# Altium footprint library ctdsp.PcbLib: 16 footprints
Each footprint in its own frame and in the unit in brackets; x right, y up, seen from the top. Pads: shape width x height; smd on the part's side, far side on the other; paste and mask are expansions set on the pad; w line width, h text height; cw(c..) or ccw(c..) is an arc to the next point about the centre after c.
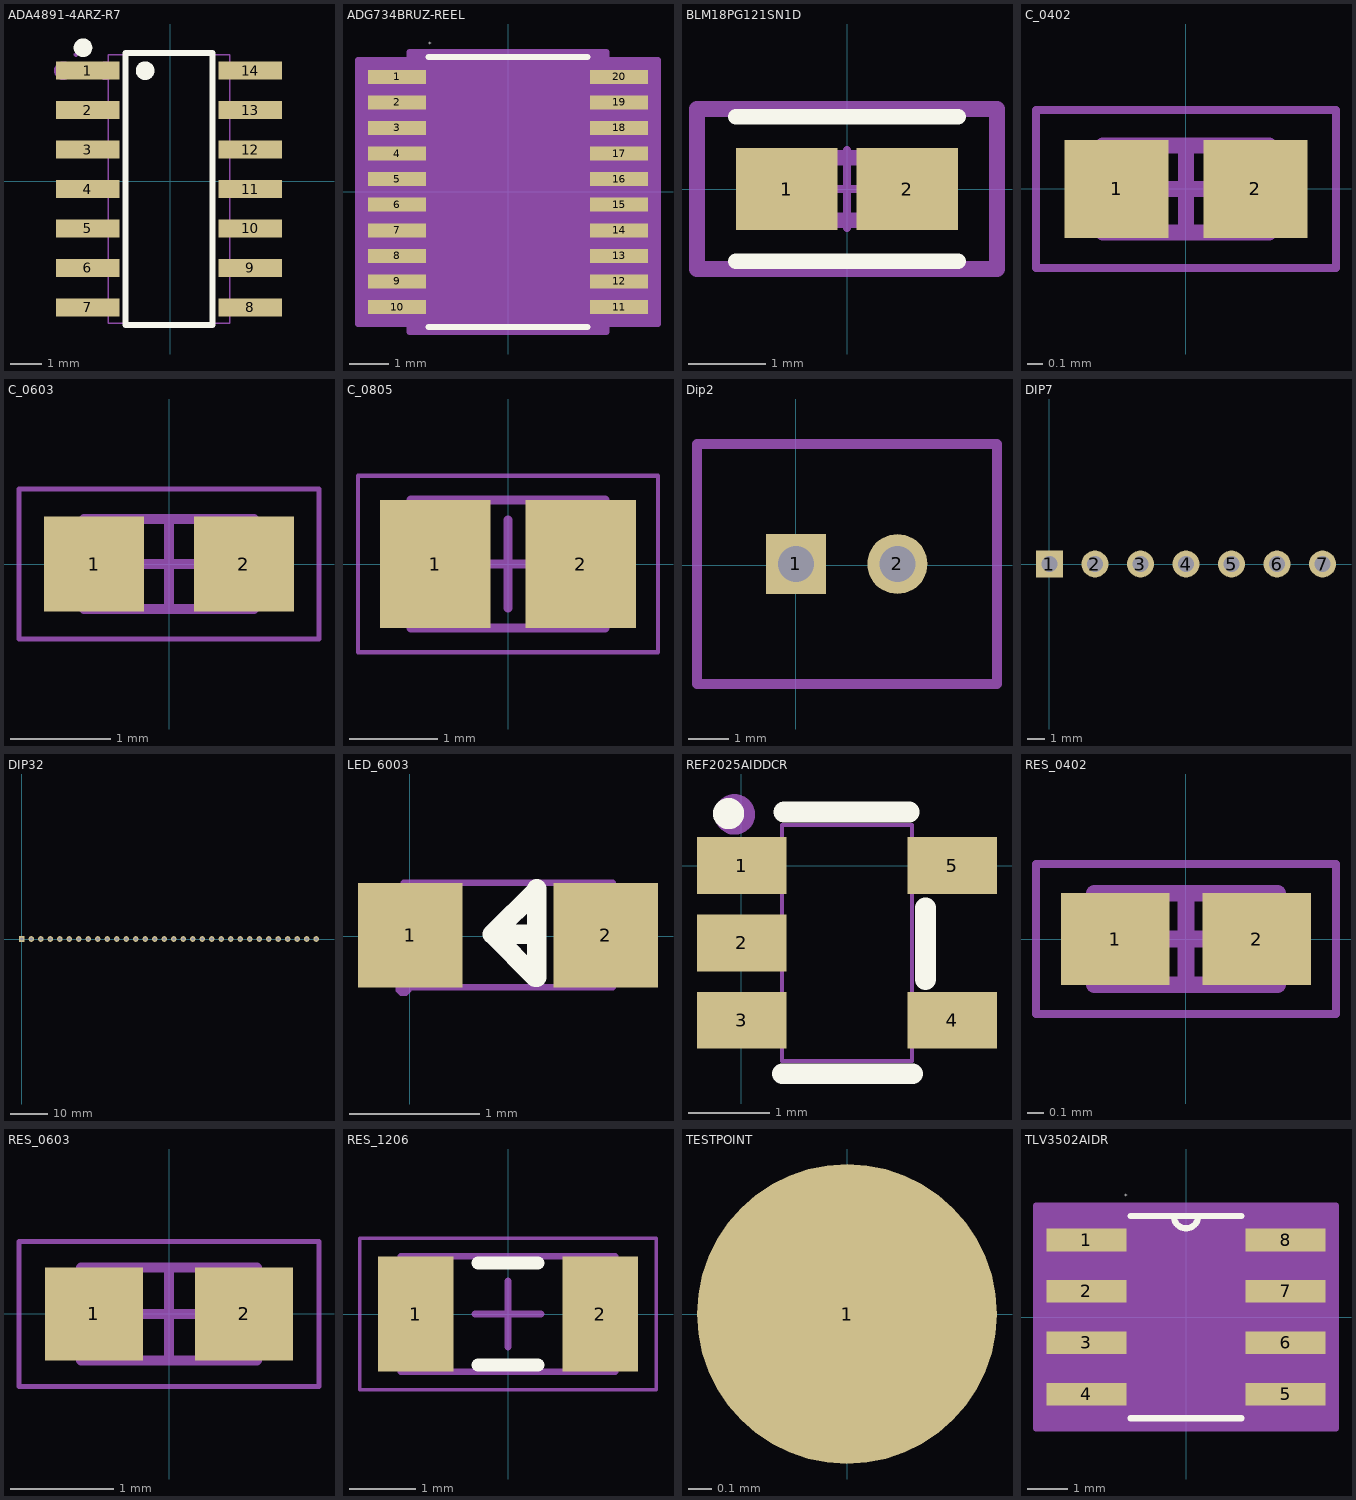
[diagram p0: the footprints below, top view; thin cyan lines are the x and y axes]

## ADA4891-4ARZ-R7 [mm]
pads (14):
  rect 2.038x0.574 smd: 1(-2.664,3.555) 2(-2.664,2.285) 3(-2.664,1.015) 4(-2.664,-0.255) 5(-2.664,-1.525) 6(-2.664,-2.795) 7(-2.664,-4.065) 8(2.574,-4.065) 9(2.574,-2.795) 10(2.574,-1.525) 11(2.574,-0.255) 12(2.574,1.015) 13(2.574,2.285) 14(2.574,3.555)
Top Overlay:
  circle w0.3: c-0.814,3.555 r0.15
  circle w0.3: c-2.814,4.295 r0.15
  circle w0.3: c-2.814,4.295 r0.15
  circle w0.3: c-0.814,3.555 r0.15
  lines w0.2: -1.442,-4.636 1.352,-4.636 1.352,4.127 -1.442,4.127 -1.442,-4.636
Mechanical 6:
  circle w0.3: c-3.445,3.555 r0.15
  circle w0.3: c-2.082,3.555 r0.15
Mechanical 15:
  drawing of 66 lines, arcs and shapes, not listed
3D body "ADA4891-4ARZ-R7.step": height 1.75, standoff 0, extent -3.048,-4.572 2.952,4.078

## ADG734BRUZ-REEL [mil]
pads (20):
  rect 58x14 smd: 1(-111,115.16) 2(-111,89.57) 3(-111,63.98) 4(-111,38.39) 5(-111,12.8) 6(-111,-12.8) 7(-111,-38.39) 8(-111,-63.98) 9(-111,-89.57) 10(-111,-115.16) 11(111,-115.16) 12(111,-89.57) 13(111,-63.98) 14(111,-38.39) 15(111,-12.8) 16(111,12.8) 17(111,38.39) 18(111,63.98) 19(111,89.57) 20(111,115.16)
Top Overlay:
  lines w6: -79.42,-135 79.42,-135 ; -79.42,135 79.42,135
  text "*" at -80,145 h5
Mechanical 13:
  lines w0: -12,130 ccw(c0,130) 12,130
  lines w1: -126,-121.16 -126,-109.16 -88.5,-109.16 -88.5,-121.16 -126,-121.16 ; -126,-95.57 -126,-83.57 -88.5,-83.57 -88.5,-95.57 -126,-95.57 ; -126,-69.98 -126,-57.98 -88.5,-57.98 -88.5,-69.98 -126,-69.98 ; -126,-44.39 -126,-32.39 -88.5,-32.39 -88.5,-44.39 -126,-44.39 ; -126,-18.8 -126,-6.8 -88.5,-6.8 -88.5,-18.8 -126,-18.8 ; -126,6.8 -126,18.8 -88.5,18.8 -88.5,6.8 -126,6.8 ; -126,32.39 -126,44.39 -88.5,44.39 -88.5,32.39 -126,32.39 ; -126,57.98 -126,69.98 -88.5,69.98 -88.5,57.98 -126,57.98 ; -126,83.57 -126,95.57 -88.5,95.57 -88.5,83.57 -126,83.57 ; -126,109.16 -126,121.16 -88.5,121.16 -88.5,109.16 -126,109.16 ; -88.5,-130 88.5,-130 88.5,130 -88.5,130 -88.5,-130 ; 88.5,-121.16 88.5,-109.16 126,-109.16 126,-121.16 88.5,-121.16 ; 88.5,-95.57 88.5,-83.57 126,-83.57 126,-95.57 88.5,-95.57 ; 88.5,-69.98 88.5,-57.98 126,-57.98 126,-69.98 88.5,-69.98 ; 88.5,-44.39 88.5,-32.39 126,-32.39 126,-44.39 88.5,-44.39 ; 88.5,-18.8 88.5,-6.8 126,-6.8 126,-18.8 88.5,-18.8 ; 88.5,6.8 88.5,18.8 126,18.8 126,6.8 88.5,6.8 ; 88.5,32.39 88.5,44.39 126,44.39 126,32.39 88.5,32.39 ; 88.5,57.98 88.5,69.98 126,69.98 126,57.98 88.5,57.98 ; 88.5,83.57 88.5,95.57 126,95.57 126,83.57 88.5,83.57 ; 88.5,109.16 88.5,121.16 126,121.16 126,109.16 88.5,109.16
  text "*" at -86,77 h50
Mechanical 15:
  region: -98.5,-132.16 -150,-132.16 -150,132.16 -98.5,132.16 -98.5,140 98.5,140 98.5,132.16 150,132.16 150,-132.16 98.5,-132.16 98.5,-140 -98.5,-140
  lines w6: -150,-132.16 -150,132.16 -98.5,132.16 -98.5,140 98.5,140 98.5,132.16 150,132.16 150,-132.16 98.5,-132.16 98.5,-140 -98.5,-140 -98.5,-132.16 -150,-132.16
3D body "RU_20_ADI.step": height 47.09, standoff 0, extent -125.98,-130 125.98,130

## BLM18PG121SN1D [mm]
pads (2):
  rect 1.306x1.058 smd paste+0 mask+0: 1(-0.776,0) 2(0.776,0)
Top Overlay:
  lines w0.2: -1.429,-0.929 1.429,-0.929 ; -1.429,0.929 1.429,0.929
Top 3D Body:
  lines w0.2: -0.8,-0.4 0.8,-0.4 0.8,0.4 -0.8,0.4 -0.8,-0.4
Board:
  lines w0.2: -1.929,-1.029 1.929,-1.029 1.929,1.029 -1.929,1.029 -1.929,-1.029
Top Assembly:
  lines w0.2: -1.929,-1.029 1.929,-1.029 1.929,1.029 -1.929,1.029 -1.929,-1.029
  text ".Designator" at 0,0.188 h1
Top Component Center:
  lines w0.1: -0.5,0 0.5,0 ; 0,-0.5 0,0.5
3D body "FBead_Murata_BLM18EG221SN1D_eec.STEP": height 0.25, standoff 0, extent -1.929,-1.029 1.929,1.029

## C_0402 [mm]
height 0.55
pads (2):
  rect 0.66x0.62 smd paste+0 mask+0.051: 1(-0.44,0) 2(0.44,0)
Mechanical 13:
  lines w0.1: -0.525,-0.275 0.525,-0.275 0.525,0.275 -0.525,0.275 -0.525,-0.275
Mechanical 15:
  lines w0.05: -0.95,-0.5 0.95,-0.5 0.95,0.5 -0.95,0.5 -0.95,-0.5
  lines w0.1: -0.275,0 0.275,0 ; 0,-0.275 0,0.275
3D body "C_0402.step": height 0.55, standoff 0, extent -0.525,-0.275 0.525,0.275

## C_0603 [mm]
height 0.9
pads (2):
  rect 1x0.95 smd: 1(-0.75,0) 2(0.75,0)
Top Courtyard:
  lines w0.05: -1.5,-0.75 -1.5,0.75 1.5,0.75 1.5,-0.75 -1.5,-0.75
  lines w0.1: -0.45,0 0.45,0 ; 0,-0.45 0,0.45
Top Assembly:
  lines w0.1: -0.85,-0.45 -0.85,0.45 0.85,0.45 0.85,-0.45 -0.85,-0.45
3D body "C_0603.step": height 0.9, standoff 0, extent -0.85,-0.45 0.85,0.45

## C_0805 [mm]
height 1.45
pads (2):
  rect 1.25x1.45 smd: 1(-0.825,0) 2(0.825,0)
Top Courtyard:
  lines w0.05: -1.7,-1 1.7,-1 1.7,1 -1.7,1 -1.7,-1
  lines w0.1: -0.5,0 0.5,0 ; 0,-0.5 0,0.5
Top Assembly:
  lines w0.1: -1.1,-0.725 1.1,-0.725 1.1,0.725 -1.1,0.725 -1.1,-0.725
3D body "C_0805.step": height 1.45, standoff 0, extent -1.1,-0.725 1.1,0.725

## Dip2 [mm]
pads (2):
  rect 1.5x1.5 hole 0.9: 1(0,0.025)
  round 1.5 hole 0.9: 2(2.54,0.025)
Top Courtyard:
  lines w0.254: -2.471,-2.975 -2.471,3.025 5.029,3.025 5.029,-2.975 -2.471,-2.975

## DIP7 [mm]
pads (7):
  rect 1.5x1.5 hole 0.9: 1(0,0)
  round 1.5 hole 0.9: 2(2.54,0) 3(5.08,0) 4(7.62,0) 5(10.16,0) 6(12.7,0) 7(15.24,0)

## DIP32 [mm]
pads (32):
  rect 1.5x1.5 hole 0.9: 1(0,0)
  round 1.5 hole 0.9: 2(2.54,0) 3(5.08,0) 4(7.62,0) 5(10.16,0) 6(12.7,0) 7(15.24,0) 8(17.78,0) 9(20.32,0) 10(22.86,0) 11(25.4,0) 12(27.94,0) 13(30.48,0) 14(33.02,0) 15(35.56,0) 16(38.1,0) 17(40.64,0) 18(43.18,0) 19(45.72,0) 20(48.26,0) 21(50.8,0) 22(53.34,0) 23(55.88,0) 24(58.42,0) 25(60.96,0) 26(63.5,0) 27(66.04,0) 28(68.58,0) 29(71.12,0) 30(73.66,0) 31(76.2,0) 32(78.74,0)

## LED_6003 [mm]
pads (2):
  rect 0.8x0.8 smd: 1(0.004,0.009) 2(1.502,0.009)
Top Overlay:
  lines w0.15: 0.973,0.016 0.633,0.016 ; 0.633,0.016 0.973,0.356 0.973,0.366 0.973,-0.314 0.963,-0.314 0.633,0.016
Mechanical 6:
  region: 1.282,0.078 1.822,0.078 1.822,-0.052 1.282,-0.052
  region: 1.488,-0.258 1.488,0.282 1.618,0.282 1.618,-0.258
  region: -0.317,0.071 0.223,0.071 0.223,-0.059 -0.317,-0.059
Mechanical 15:
  region: 1.253,-0.387 1.253,0.413 1.553,0.413 1.553,-0.387
  region: -0.047,-0.394 -0.047,0.406 0.253,0.406 0.253,-0.394
  region: 0.014,-0.394 0.014,-0.419 -0.022,-0.454 -0.071,-0.454 -0.106,-0.419 -0.106,-0.394 -0.106,-0.369 -0.071,-0.334 -0.022,-0.334 0.014,-0.369
  lines w0.051: -0.047,-0.391 1.553,-0.391 1.553,0.409 -0.047,0.409 -0.047,-0.391
3D body: height 0.3, standoff 0.02, extent -0.047,-0.387 1.553,0.409
3D body: height 0.35, standoff 0, extent 1.403,-0.387 1.553,0.413
3D body: height 0.35, standoff 0, extent -0.047,-0.394 0.103,0.406

## REF2025AIDDCR [mm]
pads (5):
  rect 1.1x0.7 smd: 1(0.006,0.002) 2(0.006,-0.947) 3(0.006,-1.899) 4(2.594,-1.899) 5(2.594,0)
Top Overlay:
  circle w0.254: c-0.157,0.641 r0.064
  lines w0.254: 0.505,-2.558 2.105,-2.558 ; 0.525,0.66 2.065,0.66 ; 2.265,-1.399 2.265,-0.516
Mechanical 6:
  circle w0.25: c-0.081,0.631 r0.125
Mechanical 15:
  region: -0.16,0.501 -0.16,0.526 -0.125,0.561 -0.076,0.561 -0.04,0.526 -0.04,0.501 -0.04,0.477 -0.076,0.441 -0.125,0.441 -0.16,0.477
  region: 2.185,0.201 2.185,-0.199 2.09,-0.199 2.09,0.201
  region: 2.7,0.201 2.7,-0.199 2.175,-0.199 2.175,0.201
  region: 2.185,-1.7 2.185,-2.1 2.09,-2.1 2.09,-1.7
  region: 2.7,-1.7 2.7,-2.1 2.175,-2.1 2.175,-1.7
  region: 0.51,-1.7 0.51,-2.1 0.415,-2.1 0.415,-1.7
  region: 0.425,-1.7 0.425,-2.1 -0.1,-2.1 -0.1,-1.7
  region: 0.51,-0.748 0.51,-1.148 0.415,-1.148 0.415,-0.748
  region: 0.425,-0.748 0.425,-1.148 -0.1,-1.148 -0.1,-0.748
  region: 0.51,0.202 0.51,-0.198 0.415,-0.198 0.415,0.202
  region: 0.425,0.202 0.425,-0.198 -0.1,-0.198 -0.1,0.202
  lines w0.051: 0.5,-2.399 2.1,-2.399 2.1,0.501 0.5,0.501 0.5,-2.399

## RES_0402 [mm]
height 0.35
pads (2):
  rect 0.65x0.55 smd paste+0 mask+0.05: 1(-0.425,0) 2(0.425,0)
Mechanical 13:
  lines w0.1: -0.55,-0.275 0.55,-0.275 0.55,0.275 -0.55,0.275 -0.55,-0.275
Mechanical 15:
  lines w0.05: -0.9,-0.45 0.9,-0.45 0.9,0.45 -0.9,0.45 -0.9,-0.45
  lines w0.1: -0.275,0 0.275,0 ; 0,-0.275 0,0.275
3D body "RES_0402.step": height 0.35, standoff 0, extent -0.55,-0.275 0.55,0.275

## RES_0603 [mm]
height 0.55
pads (2):
  rect 0.95x0.9 smd: 1(-0.725,0) 2(0.725,0)
Top Courtyard:
  lines w0.05: -1.45,-0.7 -1.45,0.7 1.45,0.7 1.45,-0.7 -1.45,-0.7
  lines w0.1: -0.45,0 0.45,0 ; 0,-0.45 0,0.45
Top Assembly:
  lines w0.1: -0.85,-0.45 -0.85,0.45 0.85,0.45 0.85,-0.45 -0.85,-0.45
3D body "RES_0603.step": height 0.55, standoff 0, extent -0.85,-0.45 0.85,0.45

## RES_1206 [mm]
height 0.65
pads (2):
  rect 1.15x1.75 smd: 1(-1.4,0) 2(1.4,0)
Top Overlay:
  lines w0.2: -0.45,-0.775 0.45,-0.775 ; -0.45,0.775 0.45,0.775
Top Courtyard:
  lines w0.05: -2.25,-1.15 -2.25,1.15 2.25,1.15 2.25,-1.15 -2.25,-1.15
  lines w0.1: -0.5,0 0.5,0 ; 0,-0.5 0,0.5
Top Assembly:
  lines w0.1: -1.625,-0.875 -1.625,0.875 1.625,0.875 1.625,-0.875 -1.625,-0.875
3D body "RES_1206.step": height 0.65, standoff 0, extent -1.625,-0.875 1.625,0.875

## TESTPOINT [mm]
pads (1):
  round 1.27 smd paste-2539.97 mask+0: 1(0,0)

## TLV3502AIDR [mil]
pads (8):
  rect 78x22 smd: 1(-97,75) 2(-97,25) 3(-97,-25) 4(-97,-75) 5(97,-75) 6(97,-25) 7(97,25) 8(97,75)
Top Overlay:
  lines w6: -54.08,-98.5 54.08,-98.5 ; -54.08,98.5 54.08,98.5 ; -12,98.5 ccw(c0,98.5) 12,98.5
  text "*" at -60,115 h5
Mechanical 13:
  lines w0: -12,98.5 ccw(c0,98.5) 12,98.5
  lines w1: -122,-85 -122,-65 -78.5,-65 -78.5,-85 -122,-85 ; -122,-35 -122,-15 -78.5,-15 -78.5,-35 -122,-35 ; -122,15 -122,35 -78.5,35 -78.5,15 -122,15 ; -122,65 -122,85 -78.5,85 -78.5,65 -122,65 ; -78.5,-98.5 78.5,-98.5 78.5,98.5 -78.5,98.5 -78.5,-98.5 ; 78.5,-85 78.5,-65 122,-65 122,-85 78.5,-85 ; 78.5,-35 78.5,-15 122,-15 122,-35 78.5,-35 ; 78.5,15 78.5,35 122,35 122,15 78.5,15 ; 78.5,65 78.5,85 122,85 122,65 78.5,65
Mechanical 15:
  region: 146,-108.5 -146,-108.5 -146,108.5 146,108.5
  lines w6: -146,-108.5 -146,108.5 146,108.5 146,-108.5 -146,-108.5
3D body "D8.step": height 69.09, standoff 0, extent -122.01,-98.5 122.01,98.5